# Altium integrated library LCD16X2.IntLib: 1 symbol
Pins are listed as number, name and electrical type; pins without a type are passive.

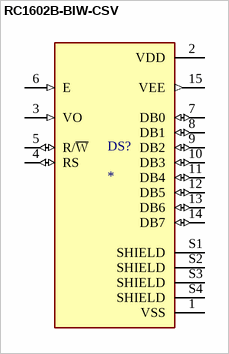
[diagram p0: symbol RC1602B-BIW-CSV]

## RC1602B-BIW-CSV
designator DS?
Display: LCD; alphanumeric; STN Negative; 16x2; blue; LED; PIN: 16; MF: Raystar; MP: RC1602B-BIW-CSV; Value: *; SnapEDA_Link: https://www.snapeda.com/parts/RC1602B-BIW-CSV/Raystar/view-part/?ref=snap; Availability: Not in stock; Price: None; Package: None; Check_prices: https://www.snapeda.com/parts/RC1602B-BIW-CSV/Raystar/view-part/?ref=eda
footprint LCD_RC1602B-BIW-CSV
pins: 1 VSS (power), 2 VDD (power), 3 VO (in), 4 RS (io), 5 R/~{W} (io), 6 E (in), 7 DB0 (io), 8 DB1 (io), 9 DB2 (io), 10 DB3 (io), 11 DB4 (io), 12 DB5 (io), 13 DB6 (io), 14 DB7 (io), 15 VEE (out), S1 SHIELD, S2 SHIELD, S3 SHIELD, S4 SHIELD